# Altium footprint library PCB2021.01270750.PcbLib: 52 footprints (part 2 of 4)
Each footprint in its own frame and in the unit in brackets; x right, y up, seen from the top. Pads: shape width x height; smd on the part's side, far side on the other; paste and mask are expansions set on the pad; w line width, h text height; cw(c..) or ccw(c..) is an arc to the next point about the centre after c.
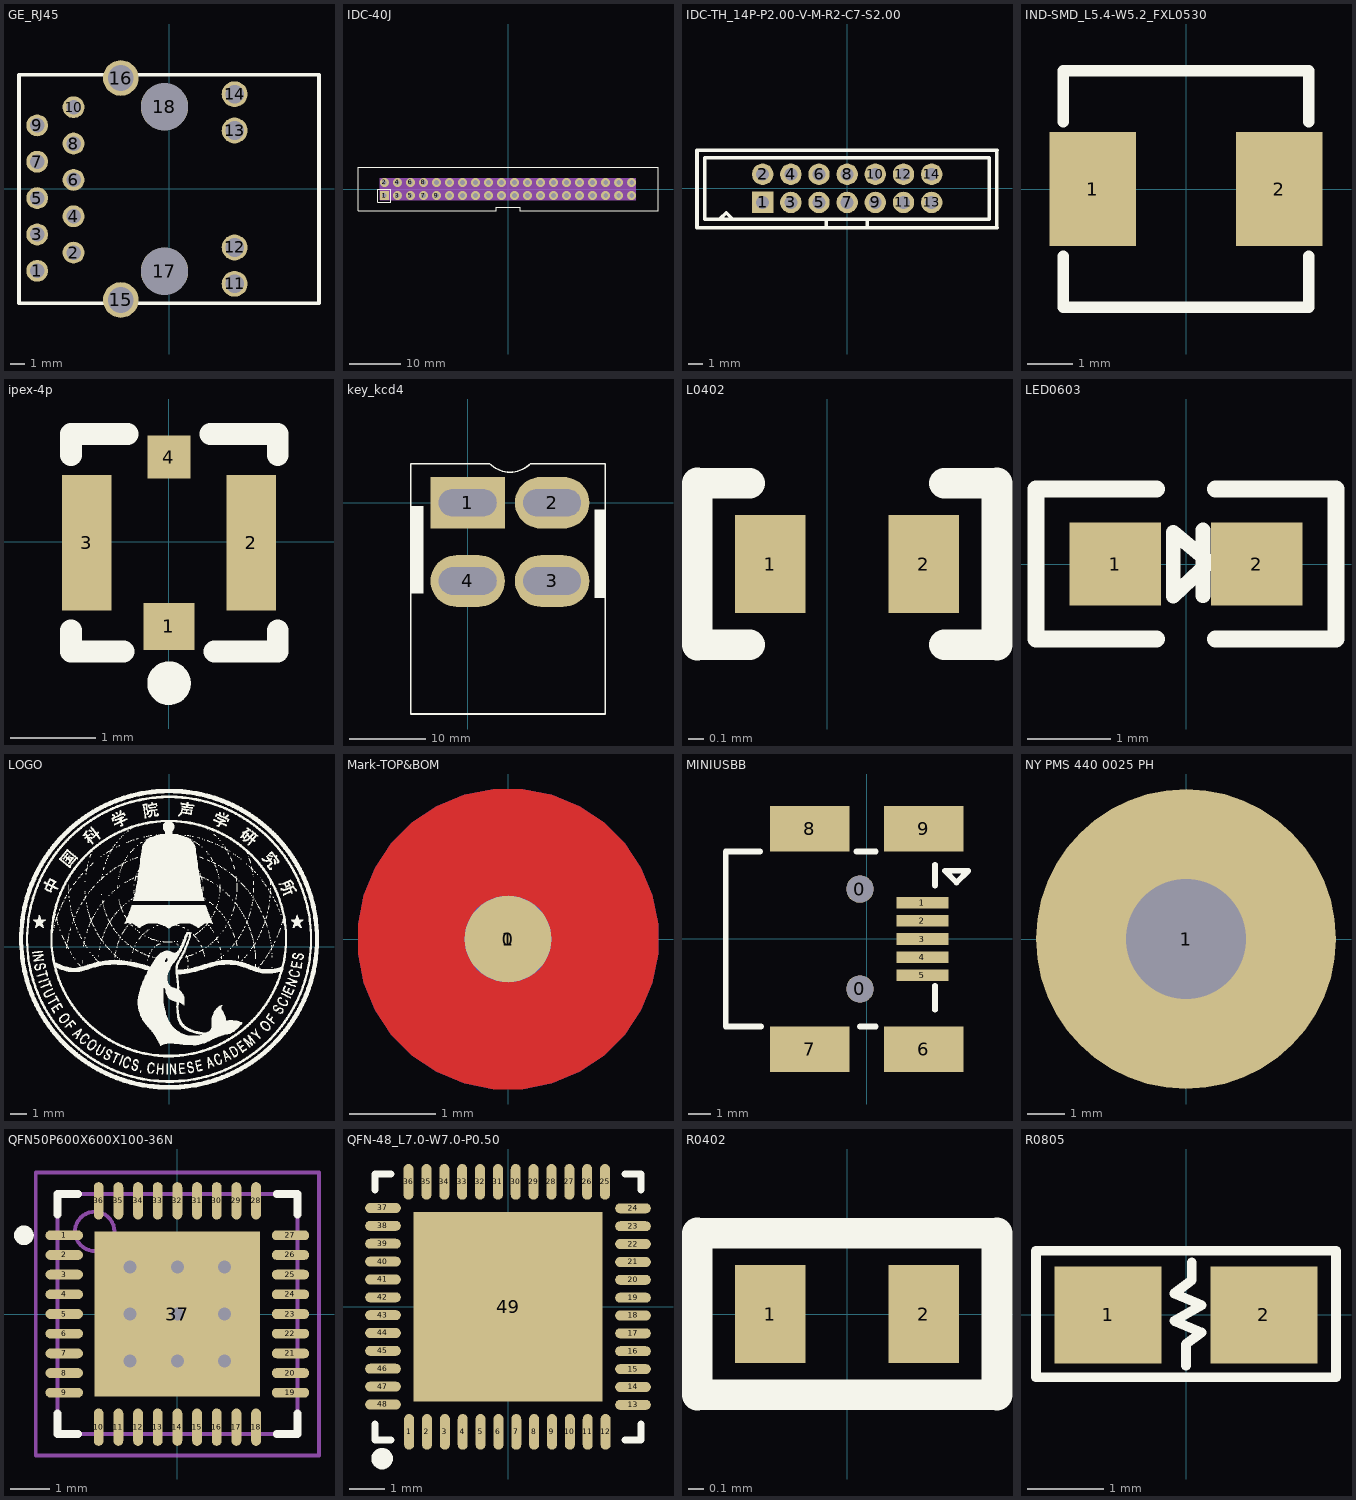
[diagram p1: the footprints below, top view; thin cyan lines are the x and y axes]

## GE_RJ45 [mil] "GE_RJ45"
pads (18):
  round 60 hole 40: 1(-362.5,-225.01) 2(-262.5,-175.01) 3(-362.5,-125.01) 4(-262.5,-75.01) 5(-362.5,-25.01) 6(-262.5,24.99) 7(-362.5,74.99) 8(-262.5,124.99) 9(-362.5,174.99) 10(-262.5,224.99)
  round 70.87 hole 51.18: 11(180.41,-260.83) 12(180.41,-160.82) 13(180.41,160.82) 14(180.41,260.82)
  round 98 hole 70.87: 15(-132.58,-305.12) 16(-132.58,305.11)
  round 129.92 hole 129.92: 17(-12.5,-225.99) 18(-12.5,225.98)
Top Overlay:
  lines w10: -412.5,-314.01 -412.5,313.99 412.5,313.99 412.5,-314.01 -412.5,-314.01

## IDC-40J [mil] "IDC-40J"
height 43.31
pads (40):
  rect 68x68 hole 35: 1(-950,-50)
  round 68 hole 35: 2(-950,50) 3(-850,-50) 4(-850,50) 5(-750,-50) 6(-750,50) 7(-650,-50) 8(-650,50) 9(-550,-50) 10(-550,50) 11(-450,-50) 12(-450,50) 13(-350,-50) 14(-350,50) 15(-250,-50) 16(-250,50) 17(-150,-50) 18(-150,50) 19(-50,-50) 20(-50,50) 21(50,-50) 22(50,50) 23(150,-50) 24(150,50) 25(250,-50) 26(250,50) 27(350,-50) 28(350,50) 29(450,-50) 30(450,50) 31(550,-50) 32(550,50) 33(650,-50) 34(650,50) 35(750,-50) 36(750,50) 37(850,-50) 38(850,50) 39(950,-50) 40(950,50)
Top Overlay:
  lines w5: -1153.54,-166.54 -91.54,-166.54 -91,-140 90.02,-140 90.55,-166.54 1153.54,-166.54 1153.54,166.54 -1153.54,166.54 -1153.54,-166.54 ; -1000,-100 -1000,0 -900,0 -900,-100 -1000,-100
Mechanical 10:
  text "18" at -130,50 h25
  text "17" at -130,-50 h25
  text "34" at 670,50 h25
  text "33" at 670,-50 h25
  text "31" at 570,-50 h25
  text "16" at -230,50 h25
  text "11" at -430,-50 h25
  text "6" at -740,50 h25
  text "26" at 270,50 h25
  text "12" at -430,50 h25
  text "13" at -330,-50 h25
  text "28" at 370,50 h25
  text "20" at -30,50 h25
  text "5" at -740,-50 h25
  text "35" at 770,-50 h25
  text "29" at 470,-50 h25
  text "23" at 170,-50 h25
  text "36" at 770,50 h25
  text "27" at 370,-50 h25
  text "15" at -230,-50 h25
  text "14" at -330,50 h25
  text "32" at 570,50 h25
  text "19" at -30,-50 h25
  text "7" at -640,-50 h25
  text "25" at 270,-50 h25
  text "10" at -530,50 h25
  text "8" at -640,50 h25
  text "4" at -840,50 h25
  text "22" at 70,50 h25
  text "24" at 170,50 h25
  text "9" at -540,-50 h25
  text "30" at 470,50 h25
  text "3" at -840,-50 h25
  text "21" at 70,-50 h25
  text "2" at -940,50 h25
  text "39" at 970,-50 h25
  text "40" at 970,50 h25
  text "1" at -940,-50 h25
  text "37" at 870,-50 h25
  text "38" at 870,50 h25
Mechanical 12:
  region: -984,-84 984,-84 984,84 -984,84
Mechanical 13:
  lines w1: -984,-84 984,-84 984,84 -984,84 -984,-84
  text ".Designator" at -27,-2 h25
3D body: height 150, standoff 0, extent -984,-84 984,84

## IDC-TH_14P-P2.00-V-M-R2-C7-S2.00 [mil]
pads (14):
  rect 60x60 hole 36: 1(-236.2,-39.4)
  round 60 hole 36: 2(-236.2,39.3) 3(-157.5,-39.4) 4(-157.5,39.3) 5(-78.7,-39.4) 6(-78.7,39.3) 7(0,-39.4) 8(0,39.3) 9(78.7,-39.4) 10(78.7,39.4) 11(157.5,-39.4) 12(157.5,39.3) 13(236.2,-39.4) 14(236.2,39.3)
Top Overlay:
  lines w10: -419.8,-109.94 -419.8,106.6 ; -419.52,-110.4 418.92,-110.4 ; -419.52,106.6 418.92,106.6 ; -398.2,-86.4 397.26,-86.4 ; -398.2,85.6 397.26,85.6 ; -397.8,-85.53 -397.8,85.6 ; -354.2,-84.4 -338.2,-68.4 -321.2,-85.4 ; -58.2,-107.4 -58.2,-87.4 ; 55.8,-108.4 55.8,-87.4 ; 397.8,-85.53 397.8,84.6 ; 418.8,-109.94 418.8,106.6

## IND-SMD_L5.4-W5.2_FXL0530 [mm]
pads (2):
  rect 1.9x2.5 smd: 1(-2.05,0) 2(2.05,0)
Top Overlay:
  lines w0.254: -2.7,-1.481 -2.7,-2.6 2.7,-2.6 2.7,-1.481 ; -2.7,1.481 -2.7,2.6 2.7,2.6 2.7,1.481

## ipex-4p [mm]
height 1.25
pads (4):
  rect 0.6x0.55 smd: 1(0,-0.988)
  rect 0.58x1.58 smd: 2(0.96,-0.012) 3(-0.96,-0.012)
  rect 0.5x0.5 smd: 4(0,0.988)
Top Overlay:
  circle w0.254: c0,-1.651 r0.127
  lines w0.254: -1.143,-1.034 -1.143,-1.282 -0.53,-1.282 ; -1.143,1.009 -1.143,1.258 -0.508,1.258 -0.48,1.258 ; 0.48,1.258 1.27,1.258 1.27,1.008 ; 0.53,-1.282 1.27,-1.282 1.27,-1.033

## key_kcd4 [mm] "kcd4,4pin,32*25"
height 28
pads (4):
  rect 9.8x6.8 hole 3.6 slot 7.6 at 0 deg: 1(0,0)
  oval 9.8x6.8 hole 3.6 slot 7.6 at 0 deg: 2(11.1,0) 3(11.1,-10.3) 4(0,-10.3)
Top Overlay:
  rectangle: -7.499,-11.963 -5.841,-0.457
  rectangle: 16.687,-12.573 18.1,-0.889
  lines w0.2: -7.5,-27.813 -7.5,5.15 2.87,5.15 ccw(c5.575,7.855) 8.28,5.15 18.1,5.15 18.1,-27.813 -7.5,-27.813

## L0402 [mil] "L0402"
pads (2):
  rect 18x25 smd: 1(-14.69,55) 2(24.69,55)
Top Overlay:
  lines w7.87: -33.43,34.31 -20,34.31 ; -33.43,75.69 -20,75.69 ; 30,34.31 43.43,34.31 ; 30,75.69 43.43,75.69
  lines w8: -33.43,34.31 -33.43,75.69 ; 43.43,34.31 43.43,75.69

## LED0603 [mm]
pads (2):
  rect 1.1x1 smd: 1(-0.85,0) 2(0.85,0)
Top Overlay:
  lines w0.178: 0.203,-0.381 0.203,0.406 ; -0.152,-0.383 0.279,0.023 -0.152,0.379 -0.152,-0.383
  lines w0.2: -0.35,-0.9 -1.8,-0.9 -1.8,0.9 -0.35,0.9 ; 0.35,-0.9 1.8,-0.9 1.8,0.9 0.35,0.9

## LOGO [mm]
height 5.842
Top Overlay:
  drawing of 9077 lines, arcs and shapes, not listed

## Mark-TOP&BOM [mm] "1mm_Mark"
height 1.1
pads (2):
  round 1 smd mask+1: 0(0,0)
  round 1 smd far side mask+1: 1(0,0)
Top Layer:
  circle w0.127: c0,0 r1.6
  pour cut-out: 0,1.734 0.171,1.734 0.506,1.667 0.821,1.536 1.105,1.347 1.347,1.105 1.536,0.821 1.667,0.506 1.734,0.171 1.734,0 1.734,-0.171 1.667,-0.506 1.536,-0.821 1.347,-1.105 1.105,-1.347 0.821,-1.536 0.506,-1.667 0.171,-1.734 0,-1.734 -0.171,-1.734 -0.506,-1.667 -0.821,-1.536 -1.105,-1.347 -1.347,-1.105 -1.536,-0.821 -1.667,-0.506 -1.734,-0.171 -1.734,0 -1.734,0.171 -1.667,0.506 -1.536,0.821 -1.347,1.105 -1.105,1.347 -0.821,1.536 -0.506,1.667 -0.171,1.734
Bottom Layer:
  circle w0.127: c0,0 r1.6
  pour cut-out: 0,1.734 0.171,1.734 0.506,1.667 0.821,1.536 1.105,1.347 1.347,1.105 1.536,0.821 1.667,0.506 1.734,0.171 1.734,0 1.734,-0.171 1.667,-0.506 1.536,-0.821 1.347,-1.105 1.105,-1.347 0.821,-1.536 0.506,-1.667 0.171,-1.734 0,-1.734 -0.171,-1.734 -0.506,-1.667 -0.821,-1.536 -1.105,-1.347 -1.347,-1.105 -1.536,-0.821 -1.667,-0.506 -1.734,-0.171 -1.734,0 -1.734,0.171 -1.667,0.506 -1.536,0.821 -1.347,1.105 -1.105,1.347 -0.821,1.536 -0.506,1.667 -0.171,1.734

## MINIUSBB [mm] "MINIUSBB"
pads (11):
  round 1.2 hole 1.2 unplated: 0(-0.3,-2.197) 0(-0.3,2.197)
  rect 2.3x0.508 smd: 1(2.45,1.6) 2(2.45,0.8) 3(2.45,0) 4(2.45,-0.8) 5(2.45,-1.6)
  rect 3.5x2 smd: 6(2.5,-4.85) 7(-2.5,-4.85) 8(-2.5,4.85) 9(2.5,4.85)
Top Overlay:
  lines w0.254: -4.7,3.85 -6.2,3.85 -6.2,-3.85 -4.65,-3.85 ; -0.45,3.85 0.4,3.85 ; -0.3,-3.85 0.4,-3.85 ; 3.002,2.35 3.002,3.27 ; 3.008,-3.11 3.008,-2.058 ; 3.445,2.999 4.461,2.999 3.953,2.491 3.445,2.999

## NY PMS 440 0025 PH [mm] "4-40 nylon screw and mounting hole"
height 1.905
pads (1):
  round 8 hole 3.2: 1(0,0)

## QFN50P600X600X100-36N [mm] "QFN, 36-Leads, Body 6.1x6.1mm (max), Pitch 0.50mm, IPC Medium Density"
height 1
pads (37):
  oval 0.95x0.25 smd: 1(-2.875,2) 2(-2.875,1.5) 3(-2.875,1) 4(-2.875,0.5) 5(-2.875,0) 6(-2.875,-0.5) 7(-2.875,-1) 8(-2.875,-1.5) 9(-2.875,-2) 19(2.875,-2) 20(2.875,-1.5) 21(2.875,-1) 22(2.875,-0.5) 23(2.875,0) 24(2.875,0.5) 25(2.875,1) 26(2.875,1.5) 27(2.875,2)
  oval 0.25x0.95 smd: 10(-2,-2.875) 11(-1.5,-2.875) 12(-1,-2.875) 13(-0.5,-2.875) 14(0,-2.875) 15(0.5,-2.875) 16(1,-2.875) 17(1.5,-2.875) 18(2,-2.875) 28(2,2.875) 29(1.5,2.875) 30(1,2.875) 31(0.5,2.875) 32(0,2.875) 33(-0.5,2.875) 34(-1,2.875) 35(-1.5,2.875) 36(-2,2.875)
  rect 4.2x4.2 smd: 37(0,0)
via 1.2,-1.2 diameter 0.66 hole 0.33
via 0,-1.2 diameter 0.66 hole 0.33
via -1.2,-1.2 diameter 0.66 hole 0.33
via 1.2,0 diameter 0.66 hole 0.33
via 0,0 diameter 0.66 hole 0.33
via -1.2,0 diameter 0.66 hole 0.33
via 1.2,1.2 diameter 0.66 hole 0.33
via 0,1.2 diameter 0.66 hole 0.33
via -1.2,1.2 diameter 0.66 hole 0.33
Top Overlay:
  circle w0.25: c-3.9,2 r0.125
  lines w0.2: -3.05,-2.525 -3.05,-3.05 -2.525,-3.05 ; -3.05,2.525 -3.05,3.05 -2.525,3.05 ; 2.525,-3.05 3.05,-3.05 3.05,-2.525 ; 2.525,3.05 3.05,3.05 3.05,2.525
Mechanical 13:
  circle w0.1: c-2.1,2.1 r0.5
  lines w0.1: -3.05,-3.05 3.05,-3.05 3.05,3.05 -3.05,3.05 -3.05,-3.05
Mechanical 15:
  lines w0.1: -0.5,0 0.5,0 ; 0,-0.5 0,0.5 ; -3.6,-3.6 3.6,-3.6 3.6,3.6 -3.6,3.6 -3.6,-3.6
3D body: height 1, standoff 0.01, extent -3.05,-3.05 3.05,3.05

## QFN-48_L7.0-W7.0-P0.50 [mm]
pads (49):
  oval 0.28x1 smd: 1(-2.769,-3.5) 2(-2.268,-3.5) 3(-1.768,-3.5) 4(-1.268,-3.5) 5(-0.767,-3.5) 6(-0.267,-3.5) 7(0.231,-3.5) 8(0.731,-3.5) 9(1.232,-3.5) 10(1.732,-3.5) 11(2.233,-3.5) 12(2.733,-3.5) 25(2.718,3.5) 26(2.217,3.5) 27(1.717,3.5) 28(1.217,3.5) 29(0.716,3.5) 30(0.216,3.5) 31(-0.282,3.5) 32(-0.782,3.5) 33(-1.283,3.5) 34(-1.783,3.5) 35(-2.284,3.5) 36(-2.784,3.5)
  oval 1x0.28 smd: 13(3.5,-2.743) 14(3.5,-2.243) 15(3.5,-1.742) 16(3.5,-1.242) 17(3.5,-0.742) 18(3.5,-0.241) 19(3.5,0.257) 20(3.5,0.757) 21(3.5,1.257) 22(3.5,1.758) 23(3.5,2.258) 24(3.5,2.759) 37(-3.5,2.769) 38(-3.5,2.268) 39(-3.5,1.768) 40(-3.5,1.268) 41(-3.5,0.767) 42(-3.5,0.267) 43(-3.5,-0.231) 44(-3.5,-0.731) 45(-3.5,-1.232) 46(-3.5,-1.732) 47(-3.5,-2.233) 48(-3.5,-2.733)
  rect 5.3x5.3 smd: 49(0,0)
Top Overlay:
  lines w0.2: -3.725,-3.275 -3.725,-3.725 -3.275,-3.725 ; -3.725,3.275 -3.725,3.725 -3.275,3.725 ; 3.275,-3.725 3.725,-3.725 3.725,-3.275 ; 3.275,3.725 3.725,3.725 3.725,3.275
  lines w0.3: -3.526,-4.099 ccw(c-3.524,-4.249) -3.523,-4.099

## R0402 [mil] "R0402"
pads (2):
  rect 18x25 smd: 1(-19.69,0) 2(19.69,0)
Top Overlay:
  lines w7.87: -38.43,-20.69 10.69,-20.69 38.43,-20.69 ; -38.43,20.69 10.69,20.69 38.43,20.69
  lines w8: -38.43,-20.69 -38.43,20.69 ; 38.43,-20.69 38.43,20.69

## R0805 [mil]
pads (2):
  rect 55x50 smd: 1(-40,0) 2(40,0)
Top Overlay:
  lines w5: 0,-26 0,-15 8,-9 -6,-3 8,5 -6,11 3,18 3,27 ; -77,-32 -77,33 77,33 77,-32 -77,-32